# Altium integrated library TI_Logic_Flip-Flop,Latch,Register.IntLib: 2598 symbols (part 122 of 122)
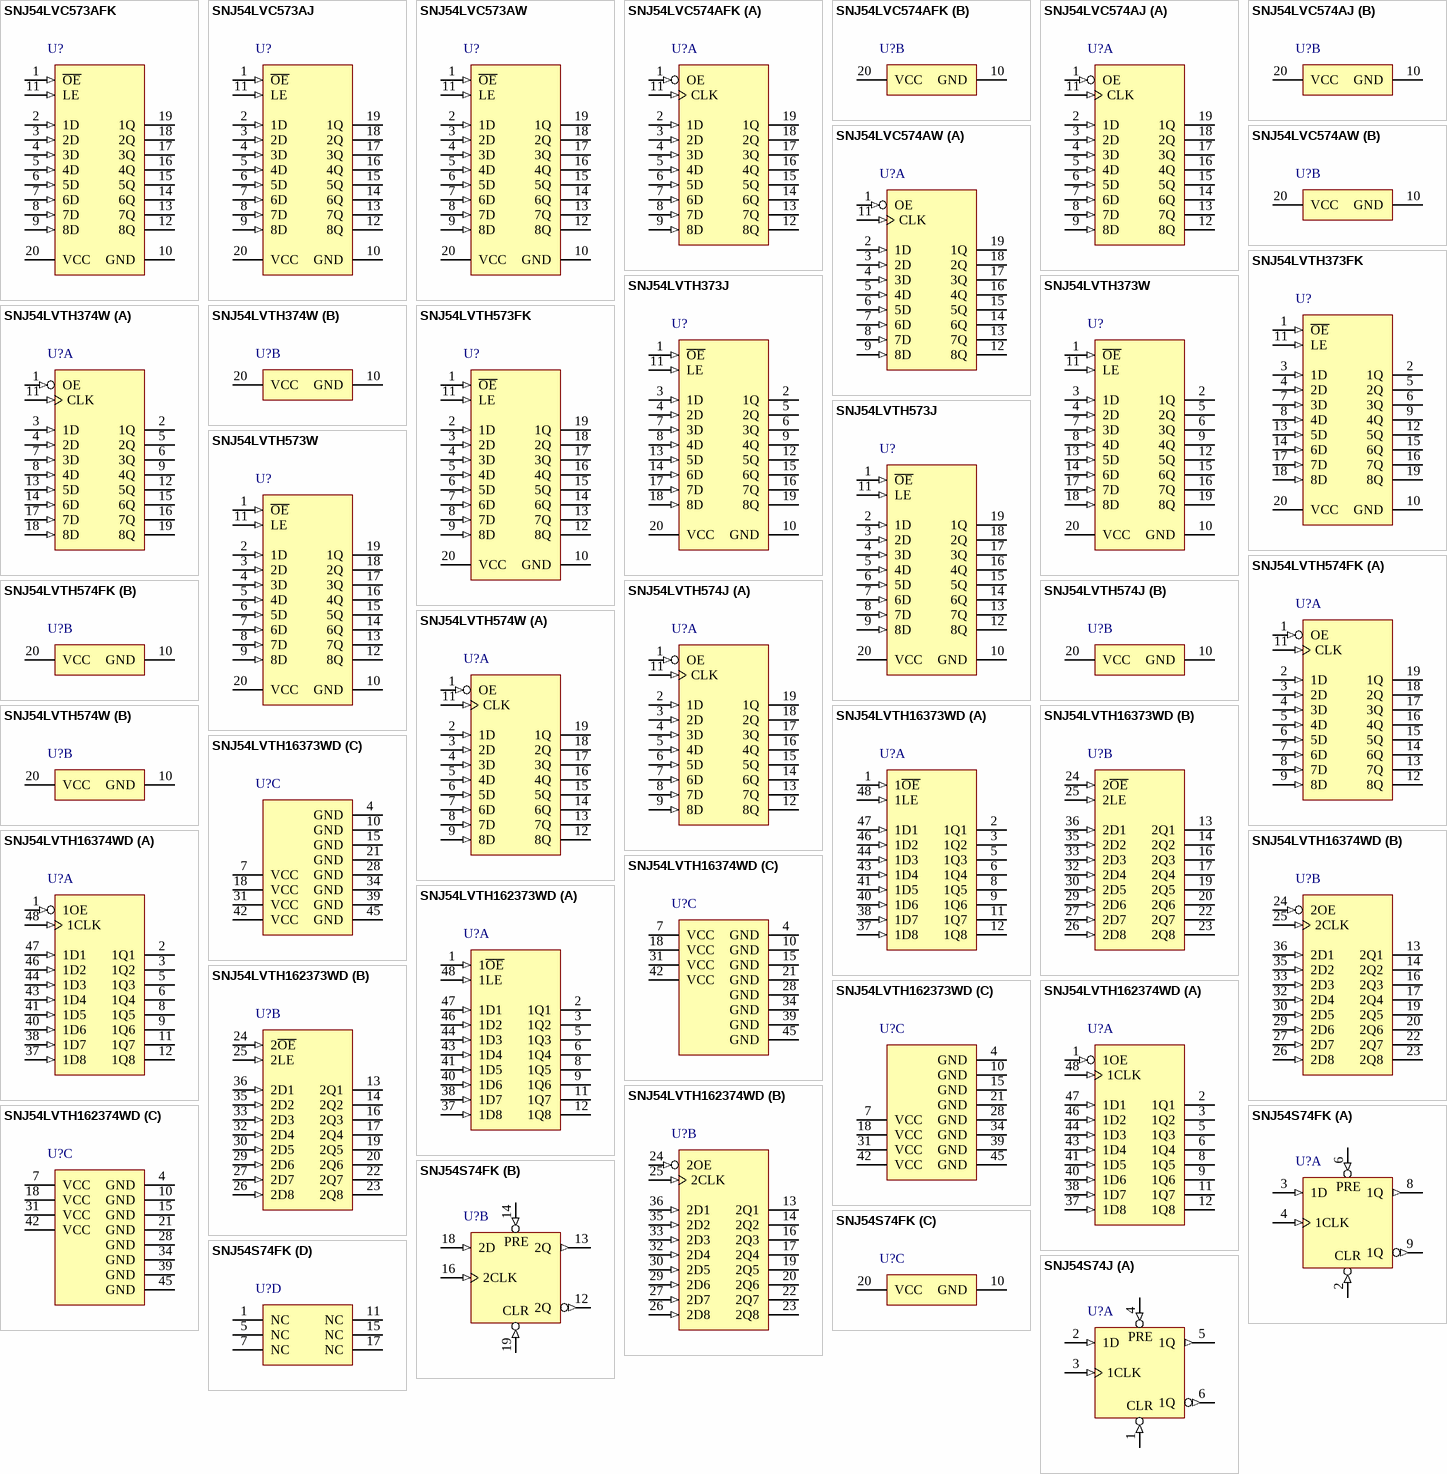
[diagram p260: symbols SNJ54LVC573AFK to SNJ54S74J]

## SNJ54LVTH574W
designator U?
3.3-V ABT Octal Edge-Triggered D-type Flip-Flops With 3-State Outputs, W0020A, TUBE; Generic Part Number: SN54LVTH574; Manufacturer: Texas Instruments; PartNumber: SNJ54LVTH574W; VCC(Min)(V): 2.7; VCC(Max)(V): 3.6; Output Type: TTL; ICC @ Nom Voltage(Max)(mA): 5; Bits(#): 8; F @ Nom Voltage(Max)(Mhz): 160; Rating: Military; Technology Family: LVT; Schmitt Trigger: No; Output Drive (IOL/IOH)(Max)(mA): 64/-32; Output Logic: Non-inverted; 3-State Output: Yes; tpd @ Nom Voltage(Max)(ns): 4.5; DatasheetVersion: SCBS688G; PackageReference: W0020A; Input Type: TTL; Operating Temperature Range(C): -55 to 125; ComponentLink1Description: Manufacturer URL; ComponentLink1URL: http://www.ti.com/; ComponentLink2Description: Datasheet; ComponentLink2URL: http://www.ti.com/lit/ds/symlink/sn54lvth574.pdf; ComponentLink3Description: Package Specification; ComponentLink3URL: http://www.ti.com/lit/ml/mcfp006d/mcfp006d.pdf
footprint W0020A_N (CFP, 20-Leads, Body 13.72x7.62mm, Pitch 1.27mm, IPC Medium Density)
footprint W0020A_M (CFP, 20-Leads, Body 13.72x7.62mm, Pitch 1.27mm, IPC Low Density)
footprint W0020A_L (CFP, 20-Leads, Body 13.72x7.62mm, Pitch 1.27mm, IPC High Density)
part A pins: 1 OE (in), 2 1D (in), 3 2D (in), 4 3D (in), 5 4D (in), 6 5D (in), 7 6D (in), 8 7D (in), 9 8D (in), 11 CLK (in), 12 8Q (hiz), 13 7Q (hiz), 14 6Q (hiz), 15 5Q (hiz), 16 4Q (hiz), 17 3Q (hiz), 18 2Q (hiz), 19 1Q (hiz)
part B pins: 10 GND (power), 20 VCC (power)

## SNJ54LVTH16373WD
designator U?
3.3V ABT 16-Bit Transparent D-type Latches with 3-State Outputs, WD0048A, TUBE; Generic Part Number: SN54LVTH16373; Manufacturer: Texas Instruments; PartNumber: SNJ54LVTH16373WD; VCC(Min)(V): 2.7; VCC(Max)(V): 3.6; Output Type: TTL; Static Current: 5 mA; ICC @ Nom Voltage(Max)(mA): 5; Bits(#): 16; F @ Nom Voltage(Max)(Mhz): 160; Rating: Military; Technology Family: LVT; Schmitt Trigger: No; Output Drive (IOL/IOH)(Max)(mA): 64/-12; Output Logic: Non-inverted; 3-State Output: Yes; tpd @ Nom Voltage(Max)(ns): 3.8; DatasheetVersion: SCBS144P; PackageReference: WD0048A; Input Type: TTL; Operating Temperature Range(C): -55 to 125; ComponentLink1Description: Manufacturer URL; ComponentLink1URL: http://www.ti.com/; ComponentLink2Description: Datasheet; ComponentLink2URL: http://www.ti.com/lit/ds/symlink/sn54lvth16373.pdf; ComponentLink3Description: Package Specification; ComponentLink3URL: http://www.ti.com/lit/ml/mcfp010b/mcfp010b.pdf
footprint WD0048A_N (CFP, 48-Leads, Body 18.03x9.91mm, Pitch 0.635mm, IPC Medium Density)
footprint WD0048A_M (CFP, 48-Leads, Body 18.03x9.91mm, Pitch 0.635mm, IPC Low Density)
footprint WD0048A_L (CFP, 48-Leads, Body 18.03x9.91mm, Pitch 0.635mm, IPC High Density)
part A pins: 1 1~{OE} (in) "Output Enable 1", 2 1Q1 (hiz) "1Q1 Output", 3 1Q2 (hiz) "1Q2 Output", 5 1Q3 (hiz) "1Q3 Output", 6 1Q4 (hiz) "1Q4 Output", 8 1Q5 (hiz) "1Q5 Output", 9 1Q6 (hiz) "1Q6 Output", 11 1Q7 (hiz) "1Q7 Output", 12 1Q8 (hiz) "1Q8 Output", 37 1D8 (in) "1D8 Input", 38 1D7 (in) "1D7 Input", 40 1D6 (in) "1D6 Input", 41 1D5 (in) "1D5 Input", 43 1D4 (in) "1D4 Input", 44 1D3 (in) "1D3 Input", 46 1D2 (in) "1D2 Input", 47 1D1 (in) "1D1 Input", 48 1LE (in) "Latch Enable 1"
part B pins: 13 2Q1 (hiz) "2Q1 Output", 14 2Q2 (hiz) "2Q2 Output", 16 2Q3 (hiz) "2Q3 Output", 17 2Q4 (hiz) "2Q4 Output", 19 2Q5 (hiz) "Output", 20 2Q6 (hiz) "2Q6 Output", 22 2Q7 (hiz) "2Q7 Output", 23 2Q8 (hiz) "2Q8 Output", 24 2~{OE} (in) "Output Enable 2", 25 2LE (in) "2LE Input", 26 2D8 (in) "2D8 Input", 27 2D7 (in) "2D7 Input", 29 2D6 (in) "2D6 Input", 30 2D5 (in) "2D5 Input", 32 2D4 (in) "2D4 Input", 33 2D3 (in) "2D3 Input", 35 2D2 (in) "2D2 Input", 36 2D1 (in) "2D1 Input"
part C pins: 4 GND (power) "Ground Pin", 7 VCC (power) "Power Pin", 10 GND (power) "Ground Pin", 15 GND (power) "Ground Pin", 18 VCC (power) "Power Pin", 21 GND (power) "Ground Pin", 28 GND (power) "Ground Pin", 31 VCC (power) "Power Pin", 34 GND (power) "Ground Pin", 39 GND (power) "Ground Pin", 42 VCC (power) "Power Pin", 45 GND (power) "Ground Pin"

## SNJ54LVTH16374WD
designator U?
3.3-V ABT 16-Bit Edge-Triggered D-type Flip-Flops With 3-State Outputs, WD0048A, TUBE; Generic Part Number: SN54LVTH16374; Manufacturer: Texas Instruments; PartNumber: SNJ54LVTH16374WD; VCC(Min)(V): 2.7; VCC(Max)(V): 3.6; Output Type: TTL; ICC @ Nom Voltage(Max)(mA): 5; Bits(#): 16; F @ Nom Voltage(Max)(Mhz): 160; Rating: Military; Technology Family: LVT; Schmitt Trigger: No; Output Drive (IOL/IOH)(Max)(mA): 64/-32; Output Logic: Non-inverted; 3-State Output: Yes; tpd @ Nom Voltage(Max)(ns): 4.5; DatasheetVersion: SCBS145R; PackageReference: WD0048A; Input Type: TTL; Operating Temperature Range(C): -55 to 125; ComponentLink1Description: Manufacturer URL; ComponentLink1URL: http://www.ti.com/; ComponentLink2Description: Datasheet; ComponentLink2URL: http://www.ti.com/lit/ds/symlink/sn54lvth16374.pdf; ComponentLink3Description: Package Specification; ComponentLink3URL: http://www.ti.com/lit/ml/mcfp010b/mcfp010b.pdf
footprint WD0048A_N (CFP, 48-Leads, Body 18.03x9.91mm, Pitch 0.635mm, IPC Medium Density)
footprint WD0048A_M (CFP, 48-Leads, Body 18.03x9.91mm, Pitch 0.635mm, IPC Low Density)
footprint WD0048A_L (CFP, 48-Leads, Body 18.03x9.91mm, Pitch 0.635mm, IPC High Density)
part A pins: 1 1OE (in), 2 1Q1 (hiz), 3 1Q2 (hiz), 5 1Q3 (hiz), 6 1Q4 (hiz), 8 1Q5 (hiz), 9 1Q6 (hiz), 11 1Q7 (hiz), 12 1Q8 (hiz), 37 1D8 (in), 38 1D7 (in), 40 1D6 (in), 41 1D5 (in), 43 1D4 (in), 44 1D3 (in), 46 1D2 (in), 47 1D1 (in), 48 1CLK (in)
part B pins: 13 2Q1 (hiz), 14 2Q2 (hiz), 16 2Q3 (hiz), 17 2Q4 (hiz), 19 2Q5 (hiz), 20 2Q6 (hiz), 22 2Q7 (hiz), 23 2Q8 (hiz), 24 2OE (in), 25 2CLK (in), 26 2D8 (in), 27 2D7 (in), 29 2D6 (in), 30 2D5 (in), 32 2D4 (in), 33 2D3 (in), 35 2D2 (in), 36 2D1 (in)
part C pins: 4 GND (power), 7 VCC (power), 10 GND (power), 15 GND (power), 18 VCC (power), 21 GND (power), 28 GND (power), 31 VCC (power), 34 GND (power), 39 GND (power), 42 VCC (power), 45 GND (power)

## SNJ54LVTH162373WD
designator U?
3.3-V ABT 16-Bit Transparent D-type Latches With 3-State Outputs, WD0048A, TUBE; Generic Part Number: SN54LVTH162373; Manufacturer: Texas Instruments; PartNumber: SNJ54LVTH162373WD; VCC(Min)(V): 2.7; VCC(Max)(V): 3.6; Output Type: TTL; Static Current: 5 mA; ICC @ Nom Voltage(Max)(mA): 5; Bits(#): 16; F @ Nom Voltage(Max)(Mhz): 160; Rating: Military; Technology Family: LVT; Schmitt Trigger: No; Output Drive (IOL/IOH)(Max)(mA): 12/-12; Output Logic: Non-inverted; 3-State Output: Yes; tpd @ Nom Voltage(Max)(ns): 4.6; DatasheetVersion: SCBS261M; PackageReference: WD0048A; Input Type: TTL; Operating Temperature Range(C): -55 to 125; ComponentLink1Description: Manufacturer URL; ComponentLink1URL: http://www.ti.com/; ComponentLink2Description: Datasheet; ComponentLink2URL: http://www.ti.com/lit/ds/symlink/sn54lvth162373.pdf; ComponentLink3Description: Package Specification; ComponentLink3URL: http://www.ti.com/lit/ml/mcfp010b/mcfp010b.pdf
footprint WD0048A_N (CFP, 48-Leads, Body 18.03x9.91mm, Pitch 0.635mm, IPC Medium Density)
footprint WD0048A_M (CFP, 48-Leads, Body 18.03x9.91mm, Pitch 0.635mm, IPC Low Density)
footprint WD0048A_L (CFP, 48-Leads, Body 18.03x9.91mm, Pitch 0.635mm, IPC High Density)
part A pins: 1 1~{OE} (in) "Output Enable 1", 2 1Q1 (hiz) "1Q1 Output", 3 1Q2 (hiz) "1Q2 Output", 5 1Q3 (hiz) "1Q3 Output", 6 1Q4 (hiz) "1Q4 Output", 8 1Q5 (hiz) "1Q5 Output", 9 1Q6 (hiz) "1Q6 Output", 11 1Q7 (hiz) "1Q7 Output", 12 1Q8 (hiz) "1Q8 Output", 37 1D8 (in) "1D8 Input", 38 1D7 (in) "1D7 Input", 40 1D6 (in) "1D6 Input", 41 1D5 (in) "1D5 Input", 43 1D4 (in) "1D4 Input", 44 1D3 (in) "1D3 Input", 46 1D2 (in) "1D2 Input", 47 1D1 (in) "1D1 Input", 48 1LE (in) "Latch Enable 1"
part B pins: 13 2Q1 (hiz) "2Q1 Output", 14 2Q2 (hiz) "2Q2 Output", 16 2Q3 (hiz) "2Q3 Output", 17 2Q4 (hiz) "2Q4 Output", 19 2Q5 (hiz) "Output", 20 2Q6 (hiz) "2Q6 Output", 22 2Q7 (hiz) "2Q7 Output", 23 2Q8 (hiz) "2Q8 Output", 24 2~{OE} (in) "Output Enable 2", 25 2LE (in) "2LE Input", 26 2D8 (in) "2D8 Input", 27 2D7 (in) "2D7 Input", 29 2D6 (in) "2D6 Input", 30 2D5 (in) "2D5 Input", 32 2D4 (in) "2D4 Input", 33 2D3 (in) "2D3 Input", 35 2D2 (in) "2D2 Input", 36 2D1 (in) "2D1 Input"
part C pins: 4 GND (power) "Ground Pin", 7 VCC (power) "Power Pin", 10 GND (power) "Ground Pin", 15 GND (power) "Ground Pin", 18 VCC (power) "Power Pin", 21 GND (power) "Ground Pin", 28 GND (power) "Ground Pin", 31 VCC (power) "Power Pin", 34 GND (power) "Ground Pin", 39 GND (power) "Ground Pin", 42 VCC (power) "Power Pin", 45 GND (power) "Ground Pin"

## SNJ54LVTH162374WD
designator U?
3.3-V ABT 16-Bit Edge-Triggered D-type Flip-Flops With 3-State Outputs, WD0048A, TUBE; Generic Part Number: SN54LVTH162374; Manufacturer: Texas Instruments; PartNumber: SNJ54LVTH162374WD; VCC(Min)(V): 2.7; VCC(Max)(V): 3.6; Output Type: TTL; ICC @ Nom Voltage(Max)(mA): 5; Bits(#): 16; F @ Nom Voltage(Max)(Mhz): 160; Rating: Military; Technology Family: LVT; Schmitt Trigger: No; Output Drive (IOL/IOH)(Max)(mA): 12/-12; Output Logic: Non-inverted; 3-State Output: Yes; tpd @ Nom Voltage(Max)(ns): 5.3; DatasheetVersion: SCBS262M; PackageReference: WD0048A; Input Type: TTL; Operating Temperature Range(C): -55 to 125; ComponentLink1Description: Manufacturer URL; ComponentLink1URL: http://www.ti.com/; ComponentLink2Description: Datasheet; ComponentLink2URL: http://www.ti.com/lit/ds/symlink/sn54lvth162374.pdf; ComponentLink3Description: Package Specification; ComponentLink3URL: http://www.ti.com/lit/ml/mcfp010b/mcfp010b.pdf
footprint WD0048A_N (CFP, 48-Leads, Body 18.03x9.91mm, Pitch 0.635mm, IPC Medium Density)
footprint WD0048A_M (CFP, 48-Leads, Body 18.03x9.91mm, Pitch 0.635mm, IPC Low Density)
footprint WD0048A_L (CFP, 48-Leads, Body 18.03x9.91mm, Pitch 0.635mm, IPC High Density)
part A pins: 1 1OE (in), 2 1Q1 (hiz), 3 1Q2 (hiz), 5 1Q3 (hiz), 6 1Q4 (hiz), 8 1Q5 (hiz), 9 1Q6 (hiz), 11 1Q7 (hiz), 12 1Q8 (hiz), 37 1D8 (in), 38 1D7 (in), 40 1D6 (in), 41 1D5 (in), 43 1D4 (in), 44 1D3 (in), 46 1D2 (in), 47 1D1 (in), 48 1CLK (in)
part B pins: 13 2Q1 (hiz), 14 2Q2 (hiz), 16 2Q3 (hiz), 17 2Q4 (hiz), 19 2Q5 (hiz), 20 2Q6 (hiz), 22 2Q7 (hiz), 23 2Q8 (hiz), 24 2OE (in), 25 2CLK (in), 26 2D8 (in), 27 2D7 (in), 29 2D6 (in), 30 2D5 (in), 32 2D4 (in), 33 2D3 (in), 35 2D2 (in), 36 2D1 (in)
part C pins: 4 GND (power), 7 VCC (power), 10 GND (power), 15 GND (power), 18 VCC (power), 21 GND (power), 28 GND (power), 31 VCC (power), 34 GND (power), 39 GND (power), 42 VCC (power), 45 GND (power)

## SNJ54S74FK
designator U?
Dual D-type Positive-Edge-Triggered Flip-Flops With Preset And C, FK0020A, TUBE; Generic Part Number: SN54S74; Manufacturer: Texas Instruments; PartNumber: SNJ54S74FK; VCC(Min)(V): 4.75; VCC(Max)(V): 5.25; Output Type: TTL; Output: 3S; ICC @ Nom Voltage(Max)(mA): 25; Bits(#): 2; F @ Nom Voltage(Max)(Mhz): 50; Rating: Military; Technology Family: S; Schmitt Trigger: No; Output Drive (IOL/IOH)(Max)(mA): 20/-1; Output Logic: Inverted,Non-inverted; DatasheetVersion: SDLS119; PackageReference: FK0020A; Input Type: TTL; Operating Temperature Range(C): -55 to 125; 3-State Output: No; Code_JEDEC: MS-004; ComponentLink1Description: Manufacturer URL; ComponentLink1URL: http://www.ti.com/; ComponentLink2Description: Datasheet; ComponentLink2URL: http://www.ti.com/lit/ds/symlink/sn54s74.pdf; ComponentLink3Description: Package Specification; ComponentLink3URL: http://www.ti.com/lit/ml/mlcc006d/mlcc006d.pdf
footprint FK0020A_N (LCC, 20-Leads, Body 8.9x8.9mm, Pitch 1.27mm, IPC Medium Density)
footprint FK0020A_M (LCC, 20-Leads, Body 8.9x8.9mm, Pitch 1.27mm, IPC Low Density)
footprint FK0020A_L (LCC, 20-Leads, Body 8.9x8.9mm, Pitch 1.27mm, IPC High Density)
part A pins: 2 1~{CLR} (in), 3 1D (in), 4 1CLK (in), 6 1~{PRE} (in), 8 1Q (out), 9 1Q (out)
part B pins: 12 2Q (out), 13 2Q (out), 14 2~{PRE} (in), 16 2CLK (in), 18 2D (in), 19 2~{CLR} (in)
part C pins: 10 GND (power), 20 VCC (power)
part D pins: 1 NC, 5 NC, 7 NC, 11 NC, 15 NC, 17 NC
part A text: PRE; CLR
part B text: PRE; CLR

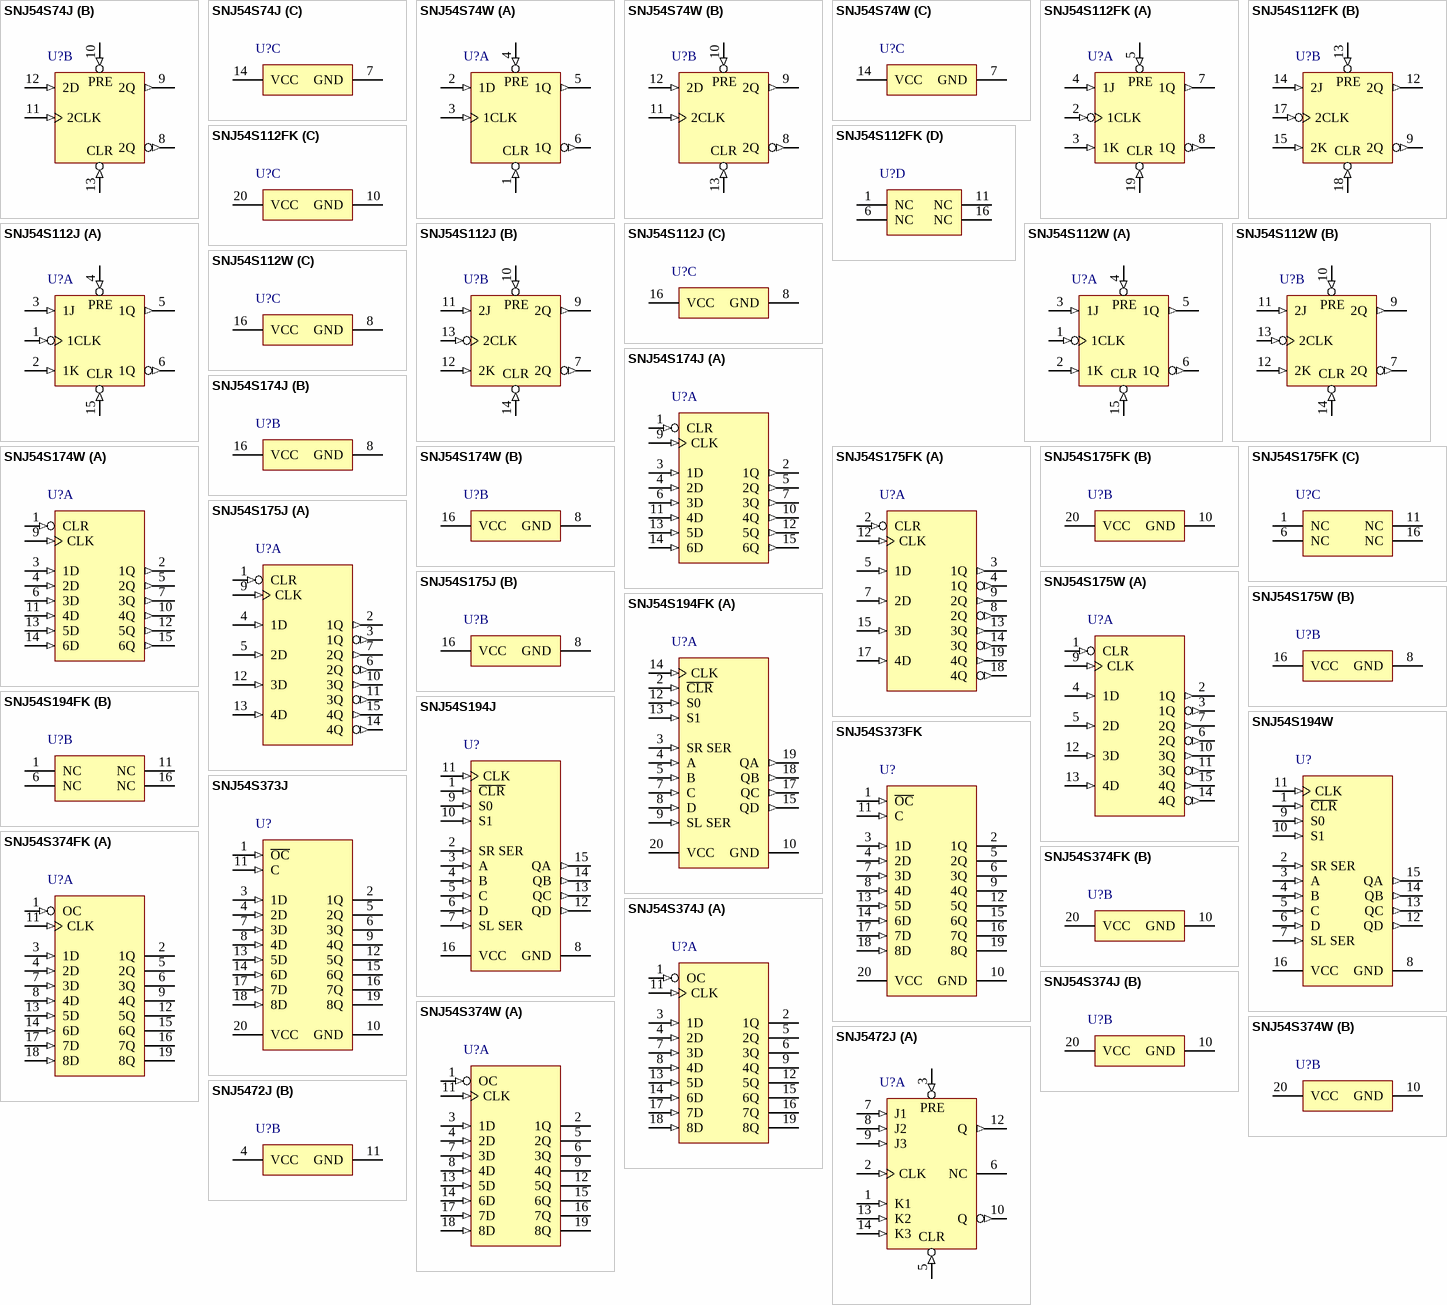
[diagram p138: symbols SNJ54S74J to SNJ5472J]

## SNJ54S74J
designator U?
Dual D-type Positive-Edge-Triggered Flip-Flops With Preset And C, J0014A, TUBE; Generic Part Number: SN54S74; Manufacturer: Texas Instruments; PartNumber: SNJ54S74J; VCC(Min)(V): 4.75; VCC(Max)(V): 5.25; Output Type: TTL; Output: 3S; ICC @ Nom Voltage(Max)(mA): 25; Bits(#): 2; F @ Nom Voltage(Max)(Mhz): 50; Rating: Military; Technology Family: S; Schmitt Trigger: No; Output Drive (IOL/IOH)(Max)(mA): 20/-1; Output Logic: Inverted,Non-inverted; DatasheetVersion: SDLS119; PackageReference: J0014A; Input Type: TTL; Operating Temperature Range(C): -55 to 125; 3-State Output: No; ComponentLink1Description: Manufacturer URL; ComponentLink1URL: http://www.ti.com/; ComponentLink2Description: Datasheet; ComponentLink2URL: http://www.ti.com/lit/ds/symlink/sn54s74.pdf; ComponentLink3Description: Package Specification; ComponentLink3URL: http://www.ti.com/lit/ml/mcer002d/mcer002d.pdf
footprint J0014A (DIP, 14-Leads, Body 19.95x7.2mm, Pitch 2.54mm)
part A pins: 1 1~{CLR} (in), 2 1D (in), 3 1CLK (in), 4 1~{PRE} (in), 5 1Q (out), 6 1Q (out)
part B pins: 8 2Q (out), 9 2Q (out), 10 2~{PRE} (in), 11 2CLK (in), 12 2D (in), 13 2~{CLR} (in)
part C pins: 7 GND (power), 14 VCC (power)
part A text: PRE; CLR
part B text: PRE; CLR

## SNJ54S74W
designator U?
Dual D-type Positive-Edge-Triggered Flip-Flops With Preset And C, W0014A, TUBE; Generic Part Number: SN54S74; Manufacturer: Texas Instruments; PartNumber: SNJ54S74W; VCC(Min)(V): 4.75; VCC(Max)(V): 5.25; Output Type: TTL; Output: 3S; ICC @ Nom Voltage(Max)(mA): 25; Bits(#): 2; F @ Nom Voltage(Max)(Mhz): 50; Rating: Military; Technology Family: S; Schmitt Trigger: No; Output Drive (IOL/IOH)(Max)(mA): 20/-1; Output Logic: Inverted,Non-inverted; DatasheetVersion: SDLS119; PackageReference: W0014A; Input Type: TTL; Operating Temperature Range(C): -55 to 125; 3-State Output: No; ComponentLink1Description: Manufacturer URL; ComponentLink1URL: http://www.ti.com/; ComponentLink2Description: Datasheet; ComponentLink2URL: http://www.ti.com/lit/ds/symlink/sn54s74.pdf; ComponentLink3Description: Package Specification; ComponentLink3URL: http://www.ti.com/lit/ml/mcfp002c/mcfp002c.pdf
footprint W0014A_N (CFP, 14-Leads, Body 9.91x6.6mm, Pitch 1.27mm, IPC Medium Density)
footprint W0014A_M (CFP, 14-Leads, Body 9.91x6.6mm, Pitch 1.27mm, IPC Low Density)
footprint W0014A_L (CFP, 14-Leads, Body 9.91x6.6mm, Pitch 1.27mm, IPC High Density)
part A pins: 1 1~{CLR} (in), 2 1D (in), 3 1CLK (in), 4 1~{PRE} (in), 5 1Q (out), 6 1Q (out)
part B pins: 8 2Q (out), 9 2Q (out), 10 2~{PRE} (in), 11 2CLK (in), 12 2D (in), 13 2~{CLR} (in)
part C pins: 7 GND (power), 14 VCC (power)
part A text: PRE; CLR
part B text: PRE; CLR

## SNJ54S112FK
designator U?
Dual J-K Negative-Edge-Triggered Flip-Flops With Preset And Clear, FK0020A, TUBE; Generic Part Number: SN54S112; Manufacturer: Texas Instruments; PartNumber: SNJ54S112FK; Rating: Military; Technology Family: S; Schmitt Trigger: No; DatasheetVersion: SDLS011; PackageReference: FK0020A; Operating Temperature Range(C): -55 to 125; Code_JEDEC: MS-004; ComponentLink1Description: Manufacturer URL; ComponentLink1URL: http://www.ti.com/; ComponentLink2Description: Datasheet; ComponentLink2URL: http://www.ti.com/lit/ds/symlink/sn54s112.pdf; ComponentLink3Description: Package Specification; ComponentLink3URL: http://www.ti.com/lit/ml/mlcc006d/mlcc006d.pdf
footprint FK0020A_N (LCC, 20-Leads, Body 8.9x8.9mm, Pitch 1.27mm, IPC Medium Density)
footprint FK0020A_M (LCC, 20-Leads, Body 8.9x8.9mm, Pitch 1.27mm, IPC Low Density)
footprint FK0020A_L (LCC, 20-Leads, Body 8.9x8.9mm, Pitch 1.27mm, IPC High Density)
part A pins: 2 1CLK (in), 3 1K (in), 4 1J (in), 5 1~{PRE} (in), 7 1Q (out), 8 1Q (out), 19 1~{CLR} (in)
part B pins: 9 2Q (out), 12 2Q (out), 13 2~{PRE} (in), 14 2J (in), 15 2K (in), 17 2CLK (in), 18 2~{CLR} (in)
part C pins: 10 GND (power), 20 VCC (power)
part D pins: 1 NC, 6 NC, 11 NC, 16 NC
part A text: PRE; CLR
part B text: PRE; CLR

## SNJ54S112J
designator U?
Dual J-K Negative-Edge-Triggered Flip-Flops With Preset And Clear, J0016A, TUBE; Generic Part Number: SN54S112; Manufacturer: Texas Instruments; PartNumber: SNJ54S112J; Rating: Military; Technology Family: S; Schmitt Trigger: No; DatasheetVersion: SDLS011; PackageReference: J0016A; Operating Temperature Range(C): -55 to 125; ComponentLink1Description: Manufacturer URL; ComponentLink1URL: http://www.ti.com/; ComponentLink2Description: Datasheet; ComponentLink2URL: http://www.ti.com/lit/ds/symlink/sn54s112.pdf; ComponentLink3Description: Package Specification; ComponentLink3URL: http://www.ti.com/lit/ml/mcer002d/mcer002d.pdf
footprint J0016A (DIP, 16-Leads, Body 21.35x7.2mm, Pitch 2.54mm)
part A pins: 1 1CLK (in), 2 1K (in), 3 1J (in), 4 1~{PRE} (in), 5 1Q (out), 6 1Q (out), 15 1~{CLR} (in)
part B pins: 7 2Q (out), 9 2Q (out), 10 2~{PRE} (in), 11 2J (in), 12 2K (in), 13 2CLK (in), 14 2~{CLR} (in)
part C pins: 8 GND (power), 16 VCC (power)
part A text: PRE; CLR
part B text: PRE; CLR

## SNJ54S112W
designator U?
Dual J-K Negative-Edge-Triggered Flip-Flops With Preset And Clear, W0016A, TUBE; Generic Part Number: SN54S112; Manufacturer: Texas Instruments; PartNumber: SNJ54S112W; Rating: Military; Technology Family: S; Schmitt Trigger: No; DatasheetVersion: SDLS011; PackageReference: W0016A; Operating Temperature Range(C): -55 to 125; ComponentLink1Description: Manufacturer URL; ComponentLink1URL: http://www.ti.com/; ComponentLink2Description: Datasheet; ComponentLink2URL: http://www.ti.com/lit/ds/symlink/sn54s112.pdf; ComponentLink3Description: Package Specification; ComponentLink3URL: http://www.ti.com/lit/ml/mcfp004c/mcfp004c.pdf
footprint W0016A_N (CFP, 16-Leads, Body 10.92x7.24mm, Pitch 1.27mm, IPC Medium Density)
footprint W0016A_M (CFP, 16-Leads, Body 10.92x7.24mm, Pitch 1.27mm, IPC Low Density)
footprint W0016A_L (CFP, 16-Leads, Body 10.92x7.24mm, Pitch 1.27mm, IPC High Density)
part A pins: 1 1CLK (in), 2 1K (in), 3 1J (in), 4 1~{PRE} (in), 5 1Q (out), 6 1Q (out), 15 1~{CLR} (in)
part B pins: 7 2Q (out), 9 2Q (out), 10 2~{PRE} (in), 11 2J (in), 12 2K (in), 13 2CLK (in), 14 2~{CLR} (in)
part C pins: 8 GND (power), 16 VCC (power)
part A text: PRE; CLR
part B text: PRE; CLR

## SNJ54S174J
designator U?
Hex D-type Flip-Flops With Clear, J0016A, TUBE; Generic Part Number: SN54S174; Manufacturer: Texas Instruments; PartNumber: SNJ54S174J; VCC(Min)(V): 4.75; VCC(Max)(V): 5.25; Output Type: TTL; Output: 2S; ICC @ Nom Voltage(Max)(mA): 144; Bits(#): 6; F @ Nom Voltage(Max)(Mhz): 50; Rating: Military; Technology Family: S; Schmitt Trigger: No; Output Drive (IOL/IOH)(Max)(mA): 20/-1; Output Logic: Inverted,Non-inverted; tpd @ Nom Voltage(Max)(ns): 17; DatasheetVersion: SDLS068A; PackageReference: J0016A; Input Type: TTL; Operating Temperature Range(C): -55 to 125; 3-State Output: No; ComponentLink1Description: Manufacturer URL; ComponentLink1URL: http://www.ti.com/; ComponentLink2Description: Datasheet; ComponentLink2URL: http://www.ti.com/lit/ds/symlink/sn54s174.pdf; ComponentLink3Description: Package Specification; ComponentLink3URL: http://www.ti.com/lit/ml/mcer002d/mcer002d.pdf
footprint J0016A (DIP, 16-Leads, Body 21.35x7.2mm, Pitch 2.54mm)
part A pins: 1 CLR (in), 2 1Q (out), 3 1D (in), 4 2D (in), 5 2Q (out), 6 3D (in), 7 3Q (out), 9 CLK (in), 10 4Q (out), 11 4D (in), 12 5Q (out), 13 5D (in), 14 6D (in), 15 6Q (out)
part B pins: 8 GND (power), 16 VCC (power)

## SNJ54S174W
designator U?
Hex D-type Flip-Flops With Clear, W0016A, TUBE; Generic Part Number: SN54S174; Manufacturer: Texas Instruments; PartNumber: SNJ54S174W; VCC(Min)(V): 4.75; VCC(Max)(V): 5.25; Output Type: TTL; Output: 2S; ICC @ Nom Voltage(Max)(mA): 144; Bits(#): 6; F @ Nom Voltage(Max)(Mhz): 50; Rating: Military; Technology Family: S; Schmitt Trigger: No; Output Drive (IOL/IOH)(Max)(mA): 20/-1; Output Logic: Inverted,Non-inverted; tpd @ Nom Voltage(Max)(ns): 17; DatasheetVersion: SDLS068A; PackageReference: W0016A; Input Type: TTL; Operating Temperature Range(C): -55 to 125; 3-State Output: No; ComponentLink1Description: Manufacturer URL; ComponentLink1URL: http://www.ti.com/; ComponentLink2Description: Datasheet; ComponentLink2URL: http://www.ti.com/lit/ds/symlink/sn54s174.pdf; ComponentLink3Description: Package Specification; ComponentLink3URL: http://www.ti.com/lit/ml/mcfp004c/mcfp004c.pdf
footprint W0016A_N (CFP, 16-Leads, Body 10.92x7.24mm, Pitch 1.27mm, IPC Medium Density)
footprint W0016A_M (CFP, 16-Leads, Body 10.92x7.24mm, Pitch 1.27mm, IPC Low Density)
footprint W0016A_L (CFP, 16-Leads, Body 10.92x7.24mm, Pitch 1.27mm, IPC High Density)
part A pins: 1 CLR (in), 2 1Q (out), 3 1D (in), 4 2D (in), 5 2Q (out), 6 3D (in), 7 3Q (out), 9 CLK (in), 10 4Q (out), 11 4D (in), 12 5Q (out), 13 5D (in), 14 6D (in), 15 6Q (out)
part B pins: 8 GND (power), 16 VCC (power)

## SNJ54S175FK
designator U?
Quadruple D-type Flip-Flops With Clear, FK0020A, TUBE; Generic Part Number: SN54S175; Manufacturer: Texas Instruments; PartNumber: SNJ54S175FK; VCC(Min)(V): 4.75; VCC(Max)(V): 5.25; Output Type: TTL; Output: 2S; ICC @ Nom Voltage(Max)(mA): 96; Bits(#): 4; F @ Nom Voltage(Max)(Mhz): 50; Rating: Military; Technology Family: S; Schmitt Trigger: No; Output Drive (IOL/IOH)(Max)(mA): 20/-1; Output Logic: Inverted,Non-inverted; tpd @ Nom Voltage(Max)(ns): 17; DatasheetVersion: SDLS068A; PackageReference: FK0020A; Input Type: TTL; Operating Temperature Range(C): -55 to 125; 3-State Output: No; Code_JEDEC: MS-004; ComponentLink1Description: Manufacturer URL; ComponentLink1URL: http://www.ti.com/; ComponentLink2Description: Datasheet; ComponentLink2URL: http://www.ti.com/lit/ds/symlink/sn54s175.pdf; ComponentLink3Description: Package Specification; ComponentLink3URL: http://www.ti.com/lit/ml/mlcc006d/mlcc006d.pdf
footprint FK0020A_N (LCC, 20-Leads, Body 8.9x8.9mm, Pitch 1.27mm, IPC Medium Density)
footprint FK0020A_M (LCC, 20-Leads, Body 8.9x8.9mm, Pitch 1.27mm, IPC Low Density)
footprint FK0020A_L (LCC, 20-Leads, Body 8.9x8.9mm, Pitch 1.27mm, IPC High Density)
part A pins: 2 CLR (in), 3 1Q (out), 4 1Q (out), 5 1D (in), 7 2D (in), 8 2Q (out), 9 2Q (out), 12 CLK (in), 13 3Q (out), 14 3Q (out), 15 3D (in), 17 4D (in), 18 4Q (out), 19 4Q (out)
part B pins: 10 GND (power), 20 VCC (power)
part C pins: 1 NC, 6 NC, 11 NC, 16 NC

## SNJ54S175J
designator U?
Quadruple D-type Flip-Flops With Clear, J0016A, TUBE; Generic Part Number: SN54S175; Manufacturer: Texas Instruments; PartNumber: SNJ54S175J; VCC(Min)(V): 4.75; VCC(Max)(V): 5.25; Output Type: TTL; Output: 2S; ICC @ Nom Voltage(Max)(mA): 96; Bits(#): 4; F @ Nom Voltage(Max)(Mhz): 50; Rating: Military; Technology Family: S; Schmitt Trigger: No; Output Drive (IOL/IOH)(Max)(mA): 20/-1; Output Logic: Inverted,Non-inverted; tpd @ Nom Voltage(Max)(ns): 17; DatasheetVersion: SDLS068A; PackageReference: J0016A; Input Type: TTL; Operating Temperature Range(C): -55 to 125; 3-State Output: No; ComponentLink1Description: Manufacturer URL; ComponentLink1URL: http://www.ti.com/; ComponentLink2Description: Datasheet; ComponentLink2URL: http://www.ti.com/lit/ds/symlink/sn54s175.pdf; ComponentLink3Description: Package Specification; ComponentLink3URL: http://www.ti.com/lit/ml/mcer002d/mcer002d.pdf
footprint J0016A (DIP, 16-Leads, Body 21.35x7.2mm, Pitch 2.54mm)
part A pins: 1 CLR (in), 2 1Q (out), 3 1Q (out), 4 1D (in), 5 2D (in), 6 2Q (out), 7 2Q (out), 9 CLK (in), 10 3Q (out), 11 3Q (out), 12 3D (in), 13 4D (in), 14 4Q (out), 15 4Q (out)
part B pins: 8 GND (power), 16 VCC (power)

## SNJ54S175W
designator U?
Quadruple D-type Flip-Flops With Clear, W0016A, TUBE; Generic Part Number: SN54S175; Manufacturer: Texas Instruments; PartNumber: SNJ54S175W; VCC(Min)(V): 4.75; VCC(Max)(V): 5.25; Output Type: TTL; Output: 2S; ICC @ Nom Voltage(Max)(mA): 96; Bits(#): 4; F @ Nom Voltage(Max)(Mhz): 50; Rating: Military; Technology Family: S; Schmitt Trigger: No; Output Drive (IOL/IOH)(Max)(mA): 20/-1; Output Logic: Inverted,Non-inverted; tpd @ Nom Voltage(Max)(ns): 17; DatasheetVersion: SDLS068A; PackageReference: W0016A; Input Type: TTL; Operating Temperature Range(C): -55 to 125; 3-State Output: No; ComponentLink1Description: Manufacturer URL; ComponentLink1URL: http://www.ti.com/; ComponentLink2Description: Datasheet; ComponentLink2URL: http://www.ti.com/lit/ds/symlink/sn54s175.pdf; ComponentLink3Description: Package Specification; ComponentLink3URL: http://www.ti.com/lit/ml/mcfp004c/mcfp004c.pdf
footprint W0016A_N (CFP, 16-Leads, Body 10.92x7.24mm, Pitch 1.27mm, IPC Medium Density)
footprint W0016A_M (CFP, 16-Leads, Body 10.92x7.24mm, Pitch 1.27mm, IPC Low Density)
footprint W0016A_L (CFP, 16-Leads, Body 10.92x7.24mm, Pitch 1.27mm, IPC High Density)
part A pins: 1 CLR (in), 2 1Q (out), 3 1Q (out), 4 1D (in), 5 2D (in), 6 2Q (out), 7 2Q (out), 9 CLK (in), 10 3Q (out), 11 3Q (out), 12 3D (in), 13 4D (in), 14 4Q (out), 15 4Q (out)
part B pins: 8 GND (power), 16 VCC (power)

## SNJ54S194FK
designator U?
4-Bit Bidirectional Universal Shift Registers, FK0020A, TUBE; Generic Part Number: SN54S194; Manufacturer: Texas Instruments; PartNumber: SNJ54S194FK; Technology Family: S; VCC(Min)(V): 4.5; VCC(Max)(V): 5.5; Output Type: TTL; Rating: Military; DatasheetVersion: SDLS075; PackageReference: FK0020A; Operating Temperature Range(C): -55 to 125; Code_JEDEC: MS-004; ComponentLink1Description: Manufacturer URL; ComponentLink1URL: http://www.ti.com/; ComponentLink2Description: Datasheet; ComponentLink2URL: http://www.ti.com/lit/ds/symlink/sn54s194.pdf; ComponentLink3Description: Package Specification; ComponentLink3URL: http://www.ti.com/lit/ml/mlcc006d/mlcc006d.pdf
footprint FK0020A_N (LCC, 20-Leads, Body 8.9x8.9mm, Pitch 1.27mm, IPC Medium Density)
footprint FK0020A_M (LCC, 20-Leads, Body 8.9x8.9mm, Pitch 1.27mm, IPC Low Density)
footprint FK0020A_L (LCC, 20-Leads, Body 8.9x8.9mm, Pitch 1.27mm, IPC High Density)
part A pins: 2 ~{CLR} (in), 3 SR SER (in), 4 A (in), 5 B (in), 7 C (in), 8 D (in), 9 SL SER (in), 10 GND (power), 12 S0 (in), 13 S1 (in), 14 CLK (in), 15 QD (out), 17 QC (out), 18 QB (out), 19 QA (out), 20 VCC (power)
part B pins: 1 NC, 6 NC, 11 NC, 16 NC

## SNJ54S194J
designator U?
4-Bit Bidirectional Universal Shift Registers, J0016A, TUBE; Generic Part Number: SN54S194; Manufacturer: Texas Instruments; PartNumber: SNJ54S194J; Technology Family: S; VCC(Min)(V): 4.5; VCC(Max)(V): 5.5; Output Type: TTL; Rating: Military; DatasheetVersion: SDLS075; PackageReference: J0016A; Operating Temperature Range(C): -55 to 125; ComponentLink1Description: Manufacturer URL; ComponentLink1URL: http://www.ti.com/; ComponentLink2Description: Datasheet; ComponentLink2URL: http://www.ti.com/lit/ds/symlink/sn54s194.pdf; ComponentLink3Description: Package Specification; ComponentLink3URL: http://www.ti.com/lit/ml/mcer002d/mcer002d.pdf
footprint J0016A (DIP, 16-Leads, Body 21.35x7.2mm, Pitch 2.54mm)
pins: 1 ~{CLR} (in), 2 SR SER (in), 3 A (in), 4 B (in), 5 C (in), 6 D (in), 7 SL SER (in), 8 GND (power), 9 S0 (in), 10 S1 (in), 11 CLK (in), 12 QD (out), 13 QC (out), 14 QB (out), 15 QA (out), 16 VCC (power)

## SNJ54S194W
designator U?
4-Bit Bidirectional Universal Shift Registers, W0016A, TUBE; Generic Part Number: SN54S194; Manufacturer: Texas Instruments; PartNumber: SNJ54S194W; Technology Family: S; VCC(Min)(V): 4.5; VCC(Max)(V): 5.5; Output Type: TTL; Rating: Military; DatasheetVersion: SDLS075; PackageReference: W0016A; Operating Temperature Range(C): -55 to 125; Bits: --; ComponentLink1Description: Manufacturer URL; ComponentLink1URL: http://www.ti.com/; ComponentLink2Description: Datasheet; ComponentLink2URL: http://www.ti.com/lit/ds/symlink/sn54s194.pdf; ComponentLink3Description: Package Specification; ComponentLink3URL: http://www.ti.com/lit/ml/mcfp004c/mcfp004c.pdf
footprint W0016A_N (CFP, 16-Leads, Body 10.92x7.24mm, Pitch 1.27mm, IPC Medium Density)
footprint W0016A_M (CFP, 16-Leads, Body 10.92x7.24mm, Pitch 1.27mm, IPC Low Density)
footprint W0016A_L (CFP, 16-Leads, Body 10.92x7.24mm, Pitch 1.27mm, IPC High Density)
pins: 1 ~{CLR} (in), 2 SR SER (in), 3 A (in), 4 B (in), 5 C (in), 6 D (in), 7 SL SER (in), 8 GND (power), 9 S0 (in), 10 S1 (in), 11 CLK (in), 12 QD (out), 13 QC (out), 14 QB (out), 15 QA (out), 16 VCC (power)

## SNJ54S373FK
designator U?
Octal D-Type Transparent Latches with 3-state Outputs, FK0020A, TUBE; Generic Part Number: SN54S373; Manufacturer: Texas Instruments; PartNumber: SNJ54S373FK; VCC(Min)(V): 4.75; VCC(Max)(V): 5.25; Output Type: TTL; Logic: True; ICC @ Nom Voltage(Max)(mA): 190; Bits(#): 8; F @ Nom Voltage(Max)(Mhz): 50; Rating: Military; Technology Family: S; Schmitt Trigger: No; Output Drive (IOL/IOH)(Max)(mA): 20/-6.5; Output Logic: Non-inverted; 3-State Output: Yes; tpd @ Nom Voltage(Max)(ns): 18; DatasheetVersion: SDLS165B; PackageReference: FK0020A; Input Type: TTL; Operating Temperature Range(C): -55 to 125; Code_JEDEC: MS-004; ComponentLink1Description: Manufacturer URL; ComponentLink1URL: http://www.ti.com/; ComponentLink2Description: Datasheet; ComponentLink2URL: http://www.ti.com/lit/ds/symlink/sn54s373.pdf; ComponentLink3Description: Package Specification; ComponentLink3URL: http://www.ti.com/lit/ml/mlcc006d/mlcc006d.pdf
footprint FK0020A_N (LCC, 20-Leads, Body 8.9x8.9mm, Pitch 1.27mm, IPC Medium Density)
footprint FK0020A_M (LCC, 20-Leads, Body 8.9x8.9mm, Pitch 1.27mm, IPC Low Density)
footprint FK0020A_L (LCC, 20-Leads, Body 8.9x8.9mm, Pitch 1.27mm, IPC High Density)
pins: 1 ~{OC} (in), 2 1Q (hiz), 3 1D (in), 4 2D (in), 5 2Q (hiz), 6 3Q (hiz), 7 3D (in), 8 4D (in), 9 4Q (hiz), 10 GND (power), 11 C (in), 12 5Q (hiz), 13 5D (in), 14 6D (in), 15 6Q (hiz), 16 7Q (hiz), 17 7D (in), 18 8D (in), 19 8Q (hiz), 20 VCC (power)

## SNJ54S373J
designator U?
Octal D-Type Transparent Latches with 3-state Outputs, J0020A, TUBE; Generic Part Number: SN54S373; Manufacturer: Texas Instruments; PartNumber: SNJ54S373J; VCC(Min)(V): 4.75; VCC(Max)(V): 5.25; Output Type: TTL; Logic: True; ICC @ Nom Voltage(Max)(mA): 190; Bits(#): 8; F @ Nom Voltage(Max)(Mhz): 50; Rating: Military; Technology Family: S; Schmitt Trigger: No; Output Drive (IOL/IOH)(Max)(mA): 20/-6.5; Output Logic: Non-inverted; 3-State Output: Yes; tpd @ Nom Voltage(Max)(ns): 18; DatasheetVersion: SDLS165B; PackageReference: J0020A; Input Type: TTL; Operating Temperature Range(C): -55 to 125; ComponentLink1Description: Manufacturer URL; ComponentLink1URL: http://www.ti.com/; ComponentLink2Description: Datasheet; ComponentLink2URL: http://www.ti.com/lit/ds/symlink/sn54s373.pdf; ComponentLink3Description: Package Specification; ComponentLink3URL: http://www.ti.com/lit/ml/mcer002d/mcer002d.pdf
footprint J0020A (DIP, 20-Leads, Body 26.9x7.2mm, Pitch 2.54mm)
pins: 1 ~{OC} (in), 2 1Q (hiz), 3 1D (in), 4 2D (in), 5 2Q (hiz), 6 3Q (hiz), 7 3D (in), 8 4D (in), 9 4Q (hiz), 10 GND (power), 11 C (in), 12 5Q (hiz), 13 5D (in), 14 6D (in), 15 6Q (hiz), 16 7Q (hiz), 17 7D (in), 18 8D (in), 19 8Q (hiz), 20 VCC (power)

## SNJ54S374FK
designator U?
Octal D-Type Positive Edge Triggered Flip-Flops with 3-State Outputs, FK0020A, TUBE; Generic Part Number: SN54S374; Manufacturer: Texas Instruments; PartNumber: SNJ54S374FK; VCC(Min)(V): 4.75; VCC(Max)(V): 5.25; Output Type: TTL; ICC @ Nom Voltage(Max)(mA): 0.18; Bits(#): 8; F @ Nom Voltage(Max)(Mhz): 50; Rating: Military; Technology Family: S; Schmitt Trigger: No; Output Drive (IOL/IOH)(Max)(mA): 20/-6.5; Output Logic: Non-inverted; 3-State Output: Yes; tpd @ Nom Voltage(Max)(ns): 17; DatasheetVersion: SDLS165B; PackageReference: FK0020A; Input Type: TTL; Operating Temperature Range(C): -55 to 125; Code_JEDEC: MS-004; ComponentLink1Description: Manufacturer URL; ComponentLink1URL: http://www.ti.com/; ComponentLink2Description: Datasheet; ComponentLink2URL: http://www.ti.com/lit/ds/symlink/sn54s374.pdf; ComponentLink3Description: Package Specification; ComponentLink3URL: http://www.ti.com/lit/ml/mlcc006d/mlcc006d.pdf
footprint FK0020A_N (LCC, 20-Leads, Body 8.9x8.9mm, Pitch 1.27mm, IPC Medium Density)
footprint FK0020A_M (LCC, 20-Leads, Body 8.9x8.9mm, Pitch 1.27mm, IPC Low Density)
footprint FK0020A_L (LCC, 20-Leads, Body 8.9x8.9mm, Pitch 1.27mm, IPC High Density)
part A pins: 1 OC (in), 2 1Q (hiz), 3 1D (in), 4 2D (in), 5 2Q (hiz), 6 3Q (hiz), 7 3D (in), 8 4D (in), 9 4Q (hiz), 11 CLK (in), 12 5Q (hiz), 13 5D (in), 14 6D (in), 15 6Q (hiz), 16 7Q (hiz), 17 7D (in), 18 8D (in), 19 8Q (hiz)
part B pins: 10 GND (power), 20 VCC (power)

## SNJ54S374J
designator U?
Octal D-Type Positive Edge Triggered Flip-Flops with 3-State Outputs, J0020A, TUBE; Generic Part Number: SN54S374; Manufacturer: Texas Instruments; PartNumber: SNJ54S374J; VCC(Min)(V): 4.75; VCC(Max)(V): 5.25; Output Type: TTL; ICC @ Nom Voltage(Max)(mA): 0.18; Bits(#): 8; F @ Nom Voltage(Max)(Mhz): 50; Rating: Military; Technology Family: S; Schmitt Trigger: No; Output Drive (IOL/IOH)(Max)(mA): 20/-6.5; Output Logic: Non-inverted; 3-State Output: Yes; tpd @ Nom Voltage(Max)(ns): 17; DatasheetVersion: SDLS165B; PackageReference: J0020A; Input Type: TTL; Operating Temperature Range(C): -55 to 125; ComponentLink1Description: Manufacturer URL; ComponentLink1URL: http://www.ti.com/; ComponentLink2Description: Datasheet; ComponentLink2URL: http://www.ti.com/lit/ds/symlink/sn54s374.pdf; ComponentLink3Description: Package Specification; ComponentLink3URL: http://www.ti.com/lit/ml/mcer002d/mcer002d.pdf
footprint J0020A (DIP, 20-Leads, Body 26.9x7.2mm, Pitch 2.54mm)
part A pins: 1 OC (in), 2 1Q (hiz), 3 1D (in), 4 2D (in), 5 2Q (hiz), 6 3Q (hiz), 7 3D (in), 8 4D (in), 9 4Q (hiz), 11 CLK (in), 12 5Q (hiz), 13 5D (in), 14 6D (in), 15 6Q (hiz), 16 7Q (hiz), 17 7D (in), 18 8D (in), 19 8Q (hiz)
part B pins: 10 GND (power), 20 VCC (power)

## SNJ54S374W
designator U?
Octal D-Type Positive Edge Triggered Flip-Flops with 3-State Outputs, W0020A, TUBE; Generic Part Number: SN54S374; Manufacturer: Texas Instruments; PartNumber: SNJ54S374W; VCC(Min)(V): 4.75; VCC(Max)(V): 5.25; Output Type: TTL; ICC @ Nom Voltage(Max)(mA): 0.18; Bits(#): 8; F @ Nom Voltage(Max)(Mhz): 50; Rating: Military; Technology Family: S; Schmitt Trigger: No; Output Drive (IOL/IOH)(Max)(mA): 20/-6.5; Output Logic: Non-inverted; 3-State Output: Yes; tpd @ Nom Voltage(Max)(ns): 17; DatasheetVersion: SDLS165B; PackageReference: W0020A; Input Type: TTL; Operating Temperature Range(C): -55 to 125; ComponentLink1Description: Manufacturer URL; ComponentLink1URL: http://www.ti.com/; ComponentLink2Description: Datasheet; ComponentLink2URL: http://www.ti.com/lit/ds/symlink/sn54s374.pdf; ComponentLink3Description: Package Specification; ComponentLink3URL: http://www.ti.com/lit/ml/mcfp006d/mcfp006d.pdf
footprint W0020A_N (CFP, 20-Leads, Body 13.72x7.62mm, Pitch 1.27mm, IPC Medium Density)
footprint W0020A_M (CFP, 20-Leads, Body 13.72x7.62mm, Pitch 1.27mm, IPC Low Density)
footprint W0020A_L (CFP, 20-Leads, Body 13.72x7.62mm, Pitch 1.27mm, IPC High Density)
part A pins: 1 OC (in), 2 1Q (hiz), 3 1D (in), 4 2D (in), 5 2Q (hiz), 6 3Q (hiz), 7 3D (in), 8 4D (in), 9 4Q (hiz), 11 CLK (in), 12 5Q (hiz), 13 5D (in), 14 6D (in), 15 6Q (hiz), 16 7Q (hiz), 17 7D (in), 18 8D (in), 19 8Q (hiz)
part B pins: 10 GND (power), 20 VCC (power)

## SNJ5472J
designator U?
And-Gated J-K Master-Slave Flip-Flops With Preset And Clear, J0014A, TUBE; Generic Part Number: SN5472; Manufacturer: Texas Instruments; PartNumber: SNJ5472J; VCC(Min)(V): 4.5; VCC(Max)(V): 5.5; Output Type: TTL; Output: 2S; Bits(#): 1; Rating: Military; Schmitt Trigger: No; DatasheetVersion: SDLS117; PackageReference: J0014A; Input Type: TTL; Operating Temperature Range(C): -55 to 125; Technology Family: TTL; ComponentLink1Description: Manufacturer URL; ComponentLink1URL: http://www.ti.com/; ComponentLink2Description: Datasheet; ComponentLink2URL: http://www.ti.com/lit/ds/symlink/sn5472.pdf; ComponentLink3Description: Package Specification; ComponentLink3URL: http://www.ti.com/lit/ml/mcer002d/mcer002d.pdf
footprint J0014A (DIP, 14-Leads, Body 19.95x7.2mm, Pitch 2.54mm)
part A pins: 1 K1 (in), 2 CLK (in), 3 ~{PRE} (in), 5 ~{CLR} (in), 6 NC, 7 J1 (in), 8 J2 (in), 9 J3 (in), 10 Q (out), 12 Q (out), 13 K2 (in), 14 K3 (in)
part B pins: 4 VCC (power), 11 GND (power)
part A text: PRE; CLR

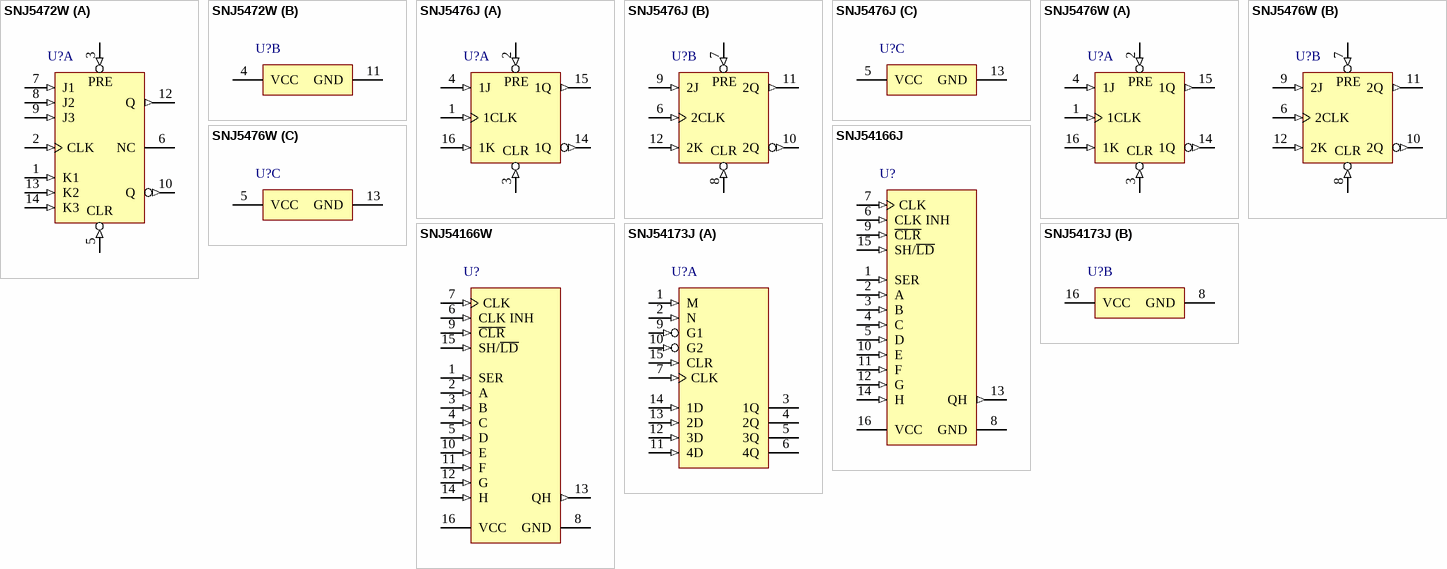
[diagram p139: symbols SNJ5472W to SNJ54173J]

## SNJ5472W
designator U?
And-Gated J-K Master-Slave Flip-Flops With Preset And Clear, W0014A, TUBE; Generic Part Number: SN5472; Manufacturer: Texas Instruments; PartNumber: SNJ5472W; VCC(Min)(V): 4.5; VCC(Max)(V): 5.5; Output Type: TTL; Output: 2S; Bits(#): 1; Rating: Military; Schmitt Trigger: No; DatasheetVersion: SDLS117; PackageReference: W0014A; Input Type: TTL; Operating Temperature Range(C): -55 to 125; Technology Family: TTL; ComponentLink1Description: Manufacturer URL; ComponentLink1URL: http://www.ti.com/; ComponentLink2Description: Datasheet; ComponentLink2URL: http://www.ti.com/lit/ds/symlink/sn5472.pdf; ComponentLink3Description: Package Specification; ComponentLink3URL: http://www.ti.com/lit/ml/mcfp002c/mcfp002c.pdf
footprint W0014A_N (CFP, 14-Leads, Body 9.91x6.6mm, Pitch 1.27mm, IPC Medium Density)
footprint W0014A_M (CFP, 14-Leads, Body 9.91x6.6mm, Pitch 1.27mm, IPC Low Density)
footprint W0014A_L (CFP, 14-Leads, Body 9.91x6.6mm, Pitch 1.27mm, IPC High Density)
part A pins: 1 K1 (in), 2 CLK (in), 3 ~{PRE} (in), 5 ~{CLR} (in), 6 NC, 7 J1 (in), 8 J2 (in), 9 J3 (in), 10 Q (out), 12 Q (out), 13 K2 (in), 14 K3 (in)
part B pins: 4 VCC (power), 11 GND (power)
part A text: PRE; CLR

## SNJ5476J
designator U?
Dual J-K Flip-Flops With Preset And Clear, J0016A, TUBE; Generic Part Number: SN5476; Manufacturer: Texas Instruments; PartNumber: SNJ5476J; VCC(Min)(V): 4.5; VCC(Max)(V): 5.5; Output Type: TTL; Output: 2S; Bits(#): 2; Rating: Military; Schmitt Trigger: No; DatasheetVersion: SDLS121; PackageReference: J0016A; Input Type: TTL; Operating Temperature Range(C): -55 to 125; Technology Family: TTL; ComponentLink1Description: Manufacturer URL; ComponentLink1URL: http://www.ti.com/; ComponentLink2Description: Datasheet; ComponentLink2URL: http://www.ti.com/lit/ds/symlink/sn5476.pdf; ComponentLink3Description: Package Specification; ComponentLink3URL: http://www.ti.com/lit/ml/mcer002d/mcer002d.pdf
footprint J0016A (DIP, 16-Leads, Body 21.35x7.2mm, Pitch 2.54mm)
part A pins: 1 1CLK (in), 2 1~{PRE} (in), 3 1~{CLR} (in), 4 1J (in), 14 1Q (out), 15 1Q (out), 16 1K (in)
part B pins: 6 2CLK (in), 7 2~{PRE} (in), 8 2~{CLR} (in), 9 2J (in), 10 2Q (out), 11 2Q (out), 12 2K (in)
part C pins: 5 VCC (power), 13 GND (power)
part A text: PRE; CLR
part B text: PRE; CLR

## SNJ5476W
designator U?
Dual J-K Flip-Flops With Preset And Clear, W0016A, TUBE; Generic Part Number: SN5476; Manufacturer: Texas Instruments; PartNumber: SNJ5476W; VCC(Min)(V): 4.5; VCC(Max)(V): 5.5; Output Type: TTL; Output: 2S; Bits(#): 2; Rating: Military; Schmitt Trigger: No; DatasheetVersion: SDLS121; PackageReference: W0016A; Input Type: TTL; Operating Temperature Range(C): -55 to 125; Technology Family: TTL; ComponentLink1Description: Manufacturer URL; ComponentLink1URL: http://www.ti.com/; ComponentLink2Description: Datasheet; ComponentLink2URL: http://www.ti.com/lit/ds/symlink/sn5476.pdf; ComponentLink3Description: Package Specification; ComponentLink3URL: http://www.ti.com/lit/ml/mcfp004c/mcfp004c.pdf
footprint W0016A_N (CFP, 16-Leads, Body 10.92x7.24mm, Pitch 1.27mm, IPC Medium Density)
footprint W0016A_M (CFP, 16-Leads, Body 10.92x7.24mm, Pitch 1.27mm, IPC Low Density)
footprint W0016A_L (CFP, 16-Leads, Body 10.92x7.24mm, Pitch 1.27mm, IPC High Density)
part A pins: 1 1CLK (in), 2 1~{PRE} (in), 3 1~{CLR} (in), 4 1J (in), 14 1Q (out), 15 1Q (out), 16 1K (in)
part B pins: 6 2CLK (in), 7 2~{PRE} (in), 8 2~{CLR} (in), 9 2J (in), 10 2Q (out), 11 2Q (out), 12 2K (in)
part C pins: 5 VCC (power), 13 GND (power)
part A text: PRE; CLR
part B text: PRE; CLR

## SNJ54166J
designator U?
Parallel-Load 8-Bit Shift Registers, J0016A, TUBE; Generic Part Number: SN54166; Manufacturer: Texas Instruments; PartNumber: SNJ54166J; Technology Family: TTL; VCC(Min)(V): 4.5; VCC(Max)(V): 5.5; Rating: Military; PackageReference: J0016A; Input Type: TTL; Operating Temperature Range(C): -55 to 125; ComponentLink1Description: Manufacturer URL; ComponentLink1URL: http://www.ti.com/; ComponentLink2Description: Datasheet; ComponentLink2URL: http://www.ti.com/lit/ds/symlink/sn54166.pdf; ComponentLink3Description: Package Specification; ComponentLink3URL: http://www.ti.com/lit/ml/mcer002d/mcer002d.pdf
footprint J0016A (DIP, 16-Leads, Body 21.35x7.2mm, Pitch 2.54mm)
pins: 1 SER (in), 2 A (in), 3 B (in), 4 C (in), 5 D (in), 6 CLK INH (in), 7 CLK (in), 8 GND (power), 9 ~{CLR} (in), 10 E (in), 11 F (in), 12 G (in), 13 QH (out), 14 H (in), 15 SH/~{LD} (in), 16 VCC (power)

## SNJ54166W
designator U?
Parallel-Load 8-Bit Shift Registers, W0016A, TUBE; Generic Part Number: SN54166; Manufacturer: Texas Instruments; PartNumber: SNJ54166W; Technology Family: TTL; VCC(Min)(V): 4.5; VCC(Max)(V): 5.5; Rating: Military; PackageReference: W0016A; Input Type: TTL; Operating Temperature Range(C): -55 to 125; ComponentLink1Description: Manufacturer URL; ComponentLink1URL: http://www.ti.com/; ComponentLink2Description: Datasheet; ComponentLink2URL: http://www.ti.com/lit/ds/symlink/sn54166.pdf; ComponentLink3Description: Package Specification; ComponentLink3URL: http://www.ti.com/lit/ml/mcfp004c/mcfp004c.pdf
footprint W0016A_N (CFP, 16-Leads, Body 10.92x7.24mm, Pitch 1.27mm, IPC Medium Density)
footprint W0016A_M (CFP, 16-Leads, Body 10.92x7.24mm, Pitch 1.27mm, IPC Low Density)
footprint W0016A_L (CFP, 16-Leads, Body 10.92x7.24mm, Pitch 1.27mm, IPC High Density)
pins: 1 SER (in), 2 A (in), 3 B (in), 4 C (in), 5 D (in), 6 CLK INH (in), 7 CLK (in), 8 GND (power), 9 ~{CLR} (in), 10 E (in), 11 F (in), 12 G (in), 13 QH (out), 14 H (in), 15 SH/~{LD} (in), 16 VCC (power)

## SNJ54173J
designator U?
4-Bit D-type Registers with 3-State Outputs, J0016A, TUBE; Generic Part Number: SN54173; Manufacturer: Texas Instruments; PartNumber: SNJ54173J; VCC(Min)(V): 4.5; VCC(Max)(V): 5.5; Output Type: TTL; Output: 3S; Bits(#): 4; Rating: Military; Schmitt Trigger: No; DatasheetVersion: SDLS067A; PackageReference: J0016A; Input Type: TTL; Operating Temperature Range(C): -55 to 125; Technology Family: TTL; ComponentLink1Description: Manufacturer URL; ComponentLink1URL: http://www.ti.com/; ComponentLink2Description: Datasheet; ComponentLink2URL: http://www.ti.com/lit/ds/symlink/sn54173.pdf; ComponentLink3Description: Package Specification; ComponentLink3URL: http://www.ti.com/lit/ml/mcer002d/mcer002d.pdf
footprint J0016A (DIP, 16-Leads, Body 21.35x7.2mm, Pitch 2.54mm)
part A pins: 1 M (in), 2 N (in), 3 1Q (hiz), 4 2Q (hiz), 5 3Q (hiz), 6 4Q (hiz), 7 CLK (in), 9 G1 (in), 10 G2 (in), 11 4D (in), 12 3D (in), 13 2D (in), 14 1D (in), 15 CLR (in)
part B pins: 8 GND (power), 16 VCC (power)